# Altium schematic symbol library GRM188R60J226MEA0D.SchLib: 1 symbol
Pins are listed as number, name and electrical type; pins without a type are passive.

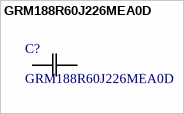
[diagram p0: symbol GRM188R60J226MEA0D]

## GRM188R60J226MEA0D
designator C?
Description; Manufacturer_Name: Murata; Copyright: Copyright (C) 2026 Ultra Librarian. All rights reserved.; Manufacturer_Part_Number: GRM188R60J226MEA0D
footprint G-188_MUR
pins: 1, 2